# Altium footprint library SamacSys.PcbLib: 7 footprints
Each footprint in its own frame and in the unit in brackets; x right, y up, seen from the top. Pads: shape width x height; smd on the part's side, far side on the other; paste and mask are expansions set on the pad; w line width, h text height; cw(c..) or ccw(c..) is an arc to the next point about the centre after c.
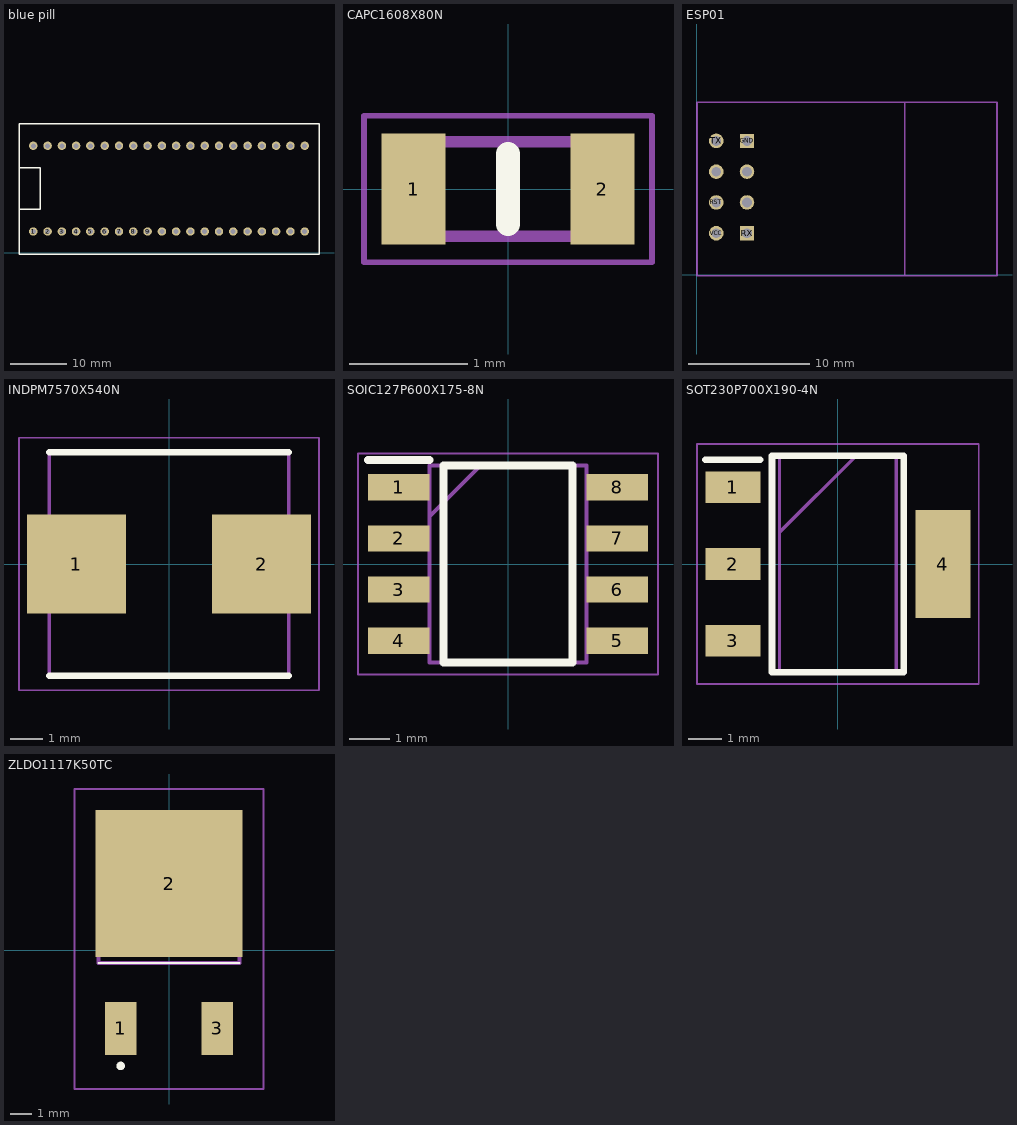
[diagram p0: the footprints below, top view; thin cyan lines are the x and y axes]

## blue pill [mm]
pads (40):
  round 1.5 hole 0.9: 1(6.096,3.774) 2(8.636,3.774) 3(11.176,3.774) 4(13.716,3.774) 5(16.236,3.774) 6(18.796,3.774) 7(21.336,3.774) 8(23.876,3.774) 9(26.416,3.774) 10(28.956,3.774) 11(31.496,3.774) 12(34.036,3.774) 13(36.576,3.774) 14(39.116,3.774) 15(41.636,3.774) 16(44.196,3.774) 17,(46.736,3.774) 18(49.276,3.774) 19(51.816,3.774) 20(54.356,3.774) 21(54.356,19.014) 22(51.816,19.014) 23(49.276,19.014) 24(46.736,19.014) 25(44.196,19.014) 26(41.656,19.014) 27(39.116,19.014) 28(36.576,19.014) 29(34.036,19.014) 30(31.496,19.014) 31(28.956,19.014) 32(26.416,19.014) 33(23.876,19.014) 34(21.336,19.014) 35(18.796,19.014) 36(16.236,19.014) 37(13.716,19.014) 38(11.176,19.014) 39(8.636,19.014) 40(6.096,19.014)
Top Overlay:
  lines w0.254: 3.556,7.711 7.366,7.711 7.366,15.077 3.556,15.077 ; 3.556,-0.29 3.556,5.044 3.556,17.744 3.556,22.951 56.896,22.951 56.896,-0.29 3.556,-0.29
Mechanical 29:
  text "BLUE PILL" at 13.589,4.79 h0.51
3D body "STM32F103C8T6_Blue_Pill v6.step": height 9.77, standoff -8.5, extent 0.098,-0.036 57.658,22.824

## CAPC1608X80N [mm]
pads (2):
  rect 0.54x0.94 smd: 1(-0.8,0) 2(0.8,0)
Top Overlay:
  lines w0.2: 0,-0.3 0,0.3
Mechanical 13:
  lines w0.1: -0.8,-0.4 0.8,-0.4 0.8,0.4 -0.8,0.4 -0.8,-0.4
Mechanical 15:
  lines w0.05: -1.22,-0.62 1.22,-0.62 1.22,0.62 -1.22,0.62 -1.22,-0.62
3D body "C1608X5R1V335K080AC.stp": height 0.8, standoff 0, extent -0.8,-0.4 0.8,0.4

## ESP01 [mil]
pads (8):
  round 47.25 / inner round 60 / far side round 47.25 hole 31.5: CH_PD(63.05,335.59) GPIO0(163.05,235.59) GPIO2(163.05,335.59) RST(63.05,235.59) TX(63.05,435.59) VCC(63.05,135.59)
  rect 45.75x45.75 / inner rect 60x60 / far side rect 45.75x45.75 hole 31.5: GND(163.05,435.59) RX(163.05,135.59)
Mechanical 22:
  lines w5: 675.55,-1.91 675.55,560.59 ; 675.55,-1.91 975.55,-1.91 975.55,560.59 675.55,560.59 ; 675.55,-1.91 0.55,-1.91 0.55,560.59 675.55,560.59
3D body "ESP8266-ESP01-step14.STEP": height 136.92, standoff -268.59, extent 2.87,-0.43 987.12,570.44

## INDPM7570X540N [mm]
pads (2):
  rect 3.1x3.1 smd: 1(-2.9,0) 2(2.9,0)
Top Overlay:
  lines w0.2: -3.75,-3.5 3.75,-3.5 ; -3.75,3.5 3.75,3.5
Mechanical 13:
  lines w0.1: -3.75,-3.5 -3.75,3.5 3.75,3.5 3.75,-3.5 -3.75,-3.5
Mechanical 15:
  lines w0.05: -4.7,-3.95 -4.7,3.95 4.7,3.95 4.7,-3.95 -4.7,-3.95
3D body "SPM7054VT-101M-D.stp": height 5.4, standoff 0, extent -3.75,-3.5 3.75,3.5

## SOIC127P600X175-8N [mm]
pads (8):
  rect 1.525x0.65 smd: 1(-2.712,1.905) 2(-2.712,0.635) 3(-2.712,-0.635) 4(-2.712,-1.905) 5(2.712,-1.905) 6(2.712,-0.635) 7(2.712,0.635) 8(2.712,1.905)
Top Overlay:
  lines w0.2: -3.475,2.58 -1.95,2.58 ; -1.6,-2.45 1.6,-2.45 1.6,2.45 -1.6,2.45 -1.6,-2.45
Mechanical 13:
  lines w0.1: -1.95,1.18 -0.68,2.45 ; -1.95,-2.45 1.95,-2.45 1.95,2.45 -1.95,2.45 -1.95,-2.45
Mechanical 15:
  lines w0.05: -3.725,-2.75 3.725,-2.75 3.725,2.75 -3.725,2.75 -3.725,-2.75
3D body "NE555DR.stp": height 1.75, standoff 0, extent -3,-2.45 3,2.45

## SOT230P700X190-4N [mm]
pads (4):
  rect 1.65x0.95 smd: 1(-3.15,2.3) 2(-3.15,0) 3(-3.15,-2.3)
  rect 1.65x3.25 smd: 4(3.15,0)
Top Overlay:
  lines w0.2: -3.975,3.125 -2.325,3.125 ; -1.975,-3.25 1.975,-3.25 1.975,3.25 -1.975,3.25 -1.975,-3.25
Mechanical 13:
  lines w0.1: -1.75,0.95 0.55,3.25 ; -1.75,-3.25 1.75,-3.25 1.75,3.25 -1.75,3.25 -1.75,-3.25
Mechanical 15:
  lines w0.05: -4.225,-3.6 4.225,-3.6 4.225,3.6 -4.225,3.6 -4.225,-3.6

## ZLDO1117K50TC [mm]
pads (3):
  rect 1.5x2.5 smd: 1(-2.3,-3.72) 3(2.3,-3.72)
  rect 7x7 smd: 2(0,3.18)
Top Overlay:
  lines w0.1: -3.35,-0.6 3.35,-0.6
  lines w0.2: -2.4,-5.5 ccw(c-2.3,-5.5) -2.2,-5.5 ccw(c-2.3,-5.5) -2.4,-5.5
Mechanical 13:
  lines w0.2: -3.35,-0.6 -3.35,5.6 3.35,5.6 3.35,-0.6 -3.35,-0.6
Mechanical 15:
  lines w0.1: -4.5,-6.6 -4.5,7.68 4.5,7.68 4.5,-6.6 -4.5,-6.6